# Altium footprint library 研发中心PCB库文件.PcbLib: 333 footprints (part 16 of 21)
Each footprint in its own frame and in the unit in brackets; x right, y up, seen from the top. Pads: shape width x height; smd on the part's side, far side on the other; paste and mask are expansions set on the pad; w line width, h text height; cw(c..) or ccw(c..) is an arc to the next point about the centre after c.
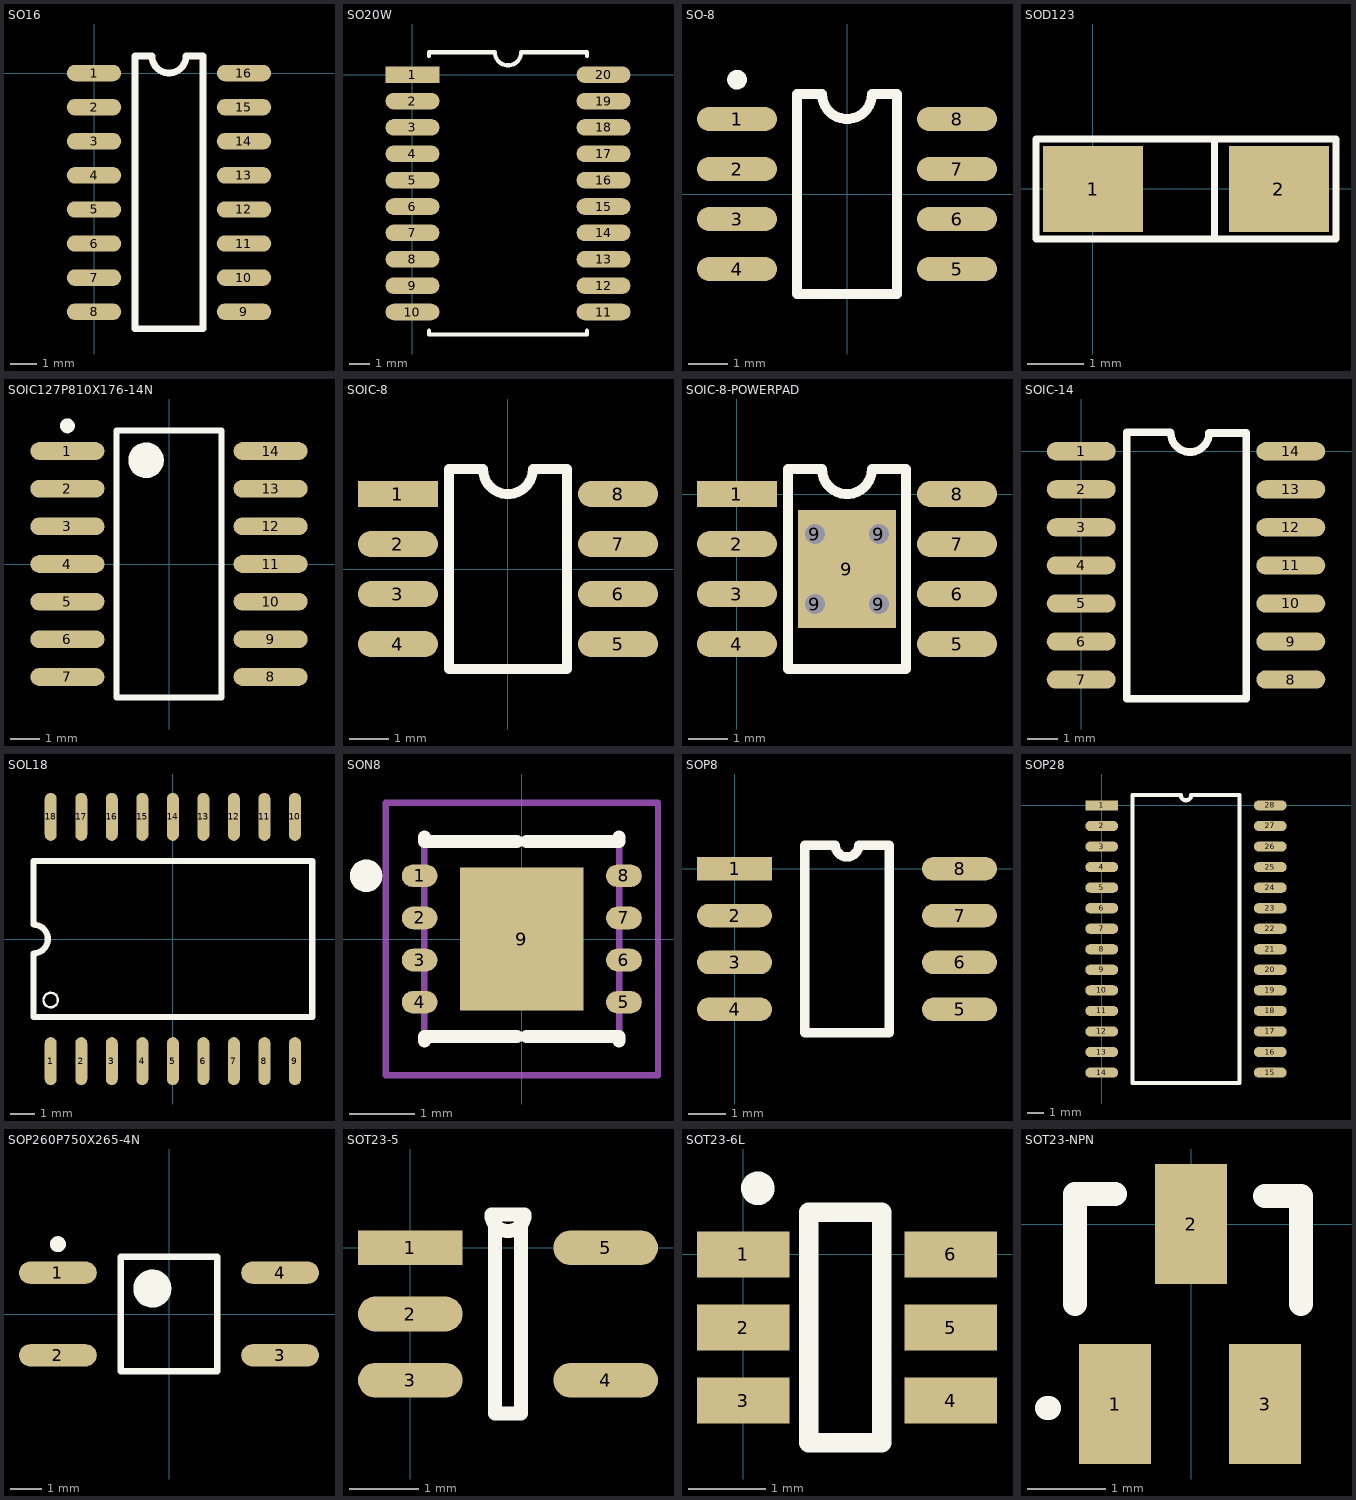
[diagram p15: the footprints below, top view; thin cyan lines are the x and y axes]

## SO16 [mil]
pads (16):
  oval 80x24 smd: 1(0,0) 2(0,-50) 3(0,-100) 4(0,-150) 5(0,-200) 6(0,-250) 7(0,-300) 8(0,-350) 9(220,-350) 10(220,-300) 11(220,-250) 12(220,-200) 13(220,-150) 14(220,-100) 15(220,-50) 16(220,0)
Top Overlay:
  lines w10: 60,-375 160,-375 160,25 135,25 cw(c110,25) 85,25 60,25 60,-375

## SO20W [mm]
pads (20):
  rect 2.6x0.8 smd: 1(0,0)
  oval 2.6x0.8 smd: 2(0,-1.27) 3(0,-2.54) 4(0,-3.81) 5(0,-5.08) 6(0,-6.35) 7(0,-7.62) 8(0,-8.89) 9(0,-10.16) 10(0,-11.43) 11(9.2,-11.43) 12(9.2,-10.16) 13(9.2,-8.89) 14(9.2,-7.62) 15(9.2,-6.35) 16(9.2,-5.08) 17(9.2,-3.81) 18(9.2,-2.54) 19(9.2,-1.27) 20(9.2,0)
Top Overlay:
  lines w0.2: 0.8,-12.33 0.8,-12.515 8.4,-12.515 8.4,-12.33 ; 0.8,0.9 0.8,1.085 3.965,1.085 ccw(c4.6,1.085) 5.235,1.085 8.4,1.085 8.4,0.9

## SO-8 [mil]
pads (8):
  oval 80x24 smd: 1(-110,75) 2(-110,25) 3(-110,-25) 4(-110,-75) 5(110,-75) 6(110,-25) 7(110,25) 8(110,75)
Top Overlay:
  circle w9.84: c-110,114.37 r4.92
  lines w10: -50,-100 50,-100 50,100 25,100 cw(c0,100) -25,100 -50,100 -50,-100

## SOD123 [mil]
pads (2):
  rect 70x60 smd: 1(0.16,-0.14) 2(130.16,-0.14)
Top Overlay:
  lines w5: 85.16,-35.14 85.16,34.86 ; -39.84,-35.14 -39.84,-0.14 -39.84,34.86 170.16,34.86 170.16,-35.14 -39.84,-35.14

## SOIC127P810X176-14N [mm] "SOIC, 14-Leads, Body 9.0x3.9mm (max), Pitch 1.27mm, IPC Medium Density"
height 1.76
pads (14):
  oval 2.5x0.6 smd: 1(-3.425,3.81) 2(-3.425,2.54) 3(-3.425,1.27) 4(-3.425,0) 5(-3.425,-1.27) 6(-3.425,-2.54) 7(-3.425,-3.81) 8(3.425,-3.81) 9(3.425,-2.54) 10(3.425,-1.27) 11(3.425,0) 12(3.425,1.27) 13(3.425,2.54) 14(3.425,3.81)
Top Overlay:
  circle w0.25: c-3.425,4.66 r0.125
  circle w0.6: c-0.775,3.5 r0.3
  lines w0.2: -1.775,-4.5 -1.775,4.5 1.775,4.5 1.775,-4.5 -1.775,-4.5

## SOIC-8 [mm]
pads (8):
  rect 2.03x0.66 smd: 1(-2.795,1.905)
  oval 2.03x0.66 smd: 2(-2.795,0.635) 3(-2.795,-0.635) 4(-2.795,-1.905) 5(2.795,-1.905) 6(2.795,-0.635) 7(2.795,0.635) 8(2.795,1.905)
Top Overlay:
  lines w0.254: -1.5,-2.54 -1.5,2.54 -0.636,2.54 ccw(c-0.001,2.54) 0.634,2.54 1.498,2.54 1.498,-2.54 -1.5,-2.54

## SOIC-8-POWERPAD [mm]
pads (13):
  rect 2.03x0.66 smd: 1(0,0)
  oval 2.03x0.66 smd: 2(0,-1.27) 3(0,-2.54) 4(0,-3.81) 5(5.59,-3.81) 6(5.59,-2.54) 7(5.59,-1.27) 8(5.59,0)
  round 0.762 hole 0.508: 9(1.981,-2.794) 9(1.981,-1.016) 9(3.607,-2.794) 9(3.607,-1.016)
  rect 2.49x2.99 smd: 9(2.79,-1.905)
Top Overlay:
  lines w0.254: 1.295,-4.445 4.293,-4.445 4.293,0.635 3.429,0.635 cw(c2.794,0.635) 2.159,0.635 1.295,0.635 1.295,-4.445

## SOIC-14 [mm]
pads (14):
  oval 2.3x0.61 smd: 1(0,0) 2(0,-1.27) 3(0,-2.54) 4(0,-3.81) 5(0,-5.08) 6(0,-6.35) 7(0,-7.62) 8(7,-7.62) 9(7,-6.35) 10(7,-5.08) 11(7,-3.81) 12(7,-2.54) 13(7,-1.27) 14(7,0)
Top Overlay:
  lines w0.254: 2.972,0.635 2.159,0.635 1.524,0.635 1.524,-8.255 4.064,-8.255 5.512,-8.255 5.512,0.61 4.267,0.61 cw(c3.632,0.61) 2.997,0.61

## SOL18 [mm]
pads (18):
  oval 0.5x2 smd: 1(-5.08,-5.08) 2(-3.81,-5.08) 3(-2.54,-5.08) 4(-1.27,-5.08) 5(0,-5.08) 6(1.27,-5.08) 7(2.54,-5.08) 8(3.81,-5.08) 9(5.08,-5.08) 10(5.08,5.08) 11(3.81,5.08) 12(2.54,5.08) 13(1.27,5.08) 14(0,5.08) 15(-1.27,5.08) 16(-2.54,5.08) 17(-3.81,5.08) 18(-5.08,5.08)
Top Overlay:
  circle w0.1: c-5.08,-2.54 r0.3
  lines w0.254: -5.8,-3.25 5.8,-3.25 5.8,3.25 -5.8,3.25 -5.8,0.6 cw(c-5.8,0) -5.8,-0.6 -5.8,-3.25

## SON8 [mm] "BMD101"
height 0.55
pads (9):
  oval 0.55x0.35 smd: 1(-1.575,0.975) 2(-1.575,0.325) 3(-1.575,-0.325) 4(-1.575,-0.975) 5(1.575,-0.975) 6(1.575,-0.325) 7(1.575,0.325) 8(1.575,0.975)
  rect 1.9x2.2 smd: 9(0,0)
Top Overlay:
  circle w0.25: c-2.4,0.975 r0.125
  lines w0.2: -1.5,-1.575 -1.5,-1.5 -0.075,-1.5 ; -1.5,1.575 -1.5,1.5 -0.075,1.5 ; 0.075,-1.5 1.5,-1.5 1.5,-1.575 ; 0.075,1.5 1.5,1.5 1.5,1.575
Mechanical 13:
  lines w0.1: -1.5,-1.5 1.5,-1.5 1.5,1.5 -1.5,1.5 -1.5,-1.5
Mechanical 15:
  lines w0.1: -0.5,0 0.5,0 ; 0,-0.5 0,0.5 ; -2.1,-2.1 2.1,-2.1 2.1,2.1 -2.1,2.1 -2.1,-2.1

## SOP8 [mil]
pads (8):
  rect 80x25 smd: 1(0,0)
  oval 80x25 smd: 2(0,-50) 3(0,-100) 4(0,-150) 5(240,-150) 6(240,-100) 7(240,-50) 8(240,0)
Top Overlay:
  lines w10: 75,-175 165,-175 165,25 132.5,25 cw(c120,25) 107.5,25 75,25 75,-175

## SOP28 [mil]
pads (28):
  rect 80x25 smd: 1(0,0)
  oval 80x25 smd: 2(0,-50) 3(0,-100) 4(0,-150) 5(0,-200) 6(0,-250) 7(0,-300) 8(0,-350) 9(0,-400) 10(0,-450) 11(0,-500) 12(0,-550) 13(0,-600) 14(0,-650) 15(410,-650) 16(410,-600) 17(410,-550) 18(410,-500) 19(410,-450) 20(410,-400) 21(410,-350) 22(410,-300) 23(410,-250) 24(410,-200) 25(410,-150) 26(410,-100) 27(410,-50) 28(410,0)
Top Overlay:
  lines w10: 75,-675 75,25 192.5,25 ccw(c205,25) 217.5,25 335,25 335,-675 75,-675

## SOP260P750X265-4N [mm] "SOP, 4-Leads, Body 3.6x4.5mm (max), Pitch 2.60mm, IPC Medium Density"
height 2.65
pads (4):
  oval 2.45x0.7 smd: 1(-3.5,1.3) 2(-3.5,-1.3) 3(3.5,-1.3) 4(3.5,1.3)
Top Overlay:
  circle w0.25: c-3.5,2.2 r0.125
  circle w0.6: c-0.525,0.8 r0.3
  lines w0.2: -1.525,-1.8 -1.525,1.8 1.525,1.8 1.525,-1.8 -1.525,-1.8

## SOT23-5 [mm]
pads (5):
  rect 1.5x0.5 smd: 1(0,0)
  oval 1.5x0.5 smd: 2(0,-0.95) 3(0,-1.9) 4(2.8,-1.9) 5(2.8,0)
Top Overlay:
  lines w0.2: 1.163,0.475 ccw(c1.4,0.475) 1.638,0.475 1.215,0.475 1.215,-2.375 1.585,-2.375 1.585,0.475 1.163,0.475

## SOT23-6L [mm]
height 1.45
pads (6):
  rect 1.2x0.6 smd: 1(0,0) 2(0,-0.95) 3(0,-1.9) 4(2.7,-1.9) 5(2.7,-0.95) 6(2.7,0)
Top Overlay:
  lines w0.254: 0.279,0.838 cw(c0.191,0.86) 0.282,0.86 ; 0.85,-2.45 1.803,-2.45 1.803,0.55 0.85,0.55 0.85,-2.45

## SOT23-NPN [mil]
pads (3):
  rect 36x60 smd: 1(-38,-90) 2(0,0) 3(37,-90)
Top Overlay:
  lines w12: -72,-92 -71,-92 ; -58,-40 -58,15 -38,15 ; 37,14 55,14 55,-40